# EAGLE library part AD5623R (library kblom)
Dual 12-/14-/16-Bit nanoDAC® with 5 ppm/°C On-Chip Reference source <http://www.analog.com/static/imported-files/data_sheets/AD5623R_5643R_5663R.pdf> dac
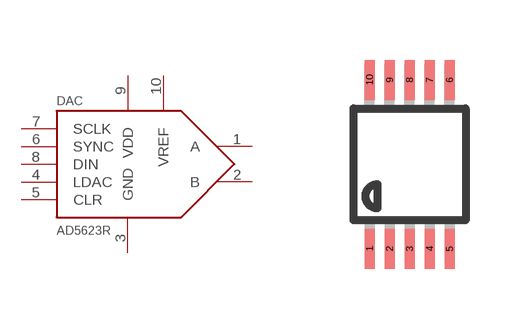
[diagram p16: symbol with the pads of MSOP10; footprint MSOP10]

Designator prefix DAC

## AD5623R  [MSOP10]
1  A
2  B
3  GND
4  LDAC
5  CLR
6  SYNC
7  SCLK
8  DIN
9  VDD
10  VREF

## Footprint MSOP10 (pad centres in mm)
10-Lead Mini Small Outline Package [MSOP] (RM-10) Source: http://www.analog.com/UploadedFiles/Data_Sheets/35641221898805SSM2167_b.pdf COMPLIANT TO JEDEC STANDARDS MO-187BA
smd 0.25 x 1: 1 -1,-2.113; 2 -0.5,-2.113; 3 0,-2.113; 4 0.5,-2.113; 5 1,-2.113; 6 1,2.113; 7 0.5,2.113; 8 0,2.113; 9 -0.5,2.113; 10 -1,2.113